# Altium schematic symbol library FUSB302BMPX.Schlib: 1 symbol
Pins are listed as number, name and electrical type; pins without a type are passive.

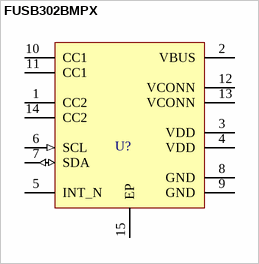
[diagram p0: symbol FUSB302BMPX]

## FUSB302BMPX
designator U?
Programmable USB Type‐C Controller
pins: 1 CC2, 2 VBUS (power), 3 VDD (power), 4 VDD (power), 5 INT_N, 6 SCL (in), 7 SDA (io), 8 GND (power), 9 GND (power), 10 CC1, 11 CC1, 12 VCONN (power), 13 VCONN (power), 14 CC2, 15 EP (power)